# Altium footprint library analog_ic.pcblib: 28 footprints (part 1 of 2)
Each footprint in its own frame and in the unit in brackets; x right, y up, seen from the top. Pads: shape width x height; smd on the part's side, far side on the other; paste and mask are expansions set on the pad; w line width, h text height; cw(c..) or ccw(c..) is an arc to the next point about the centre after c.
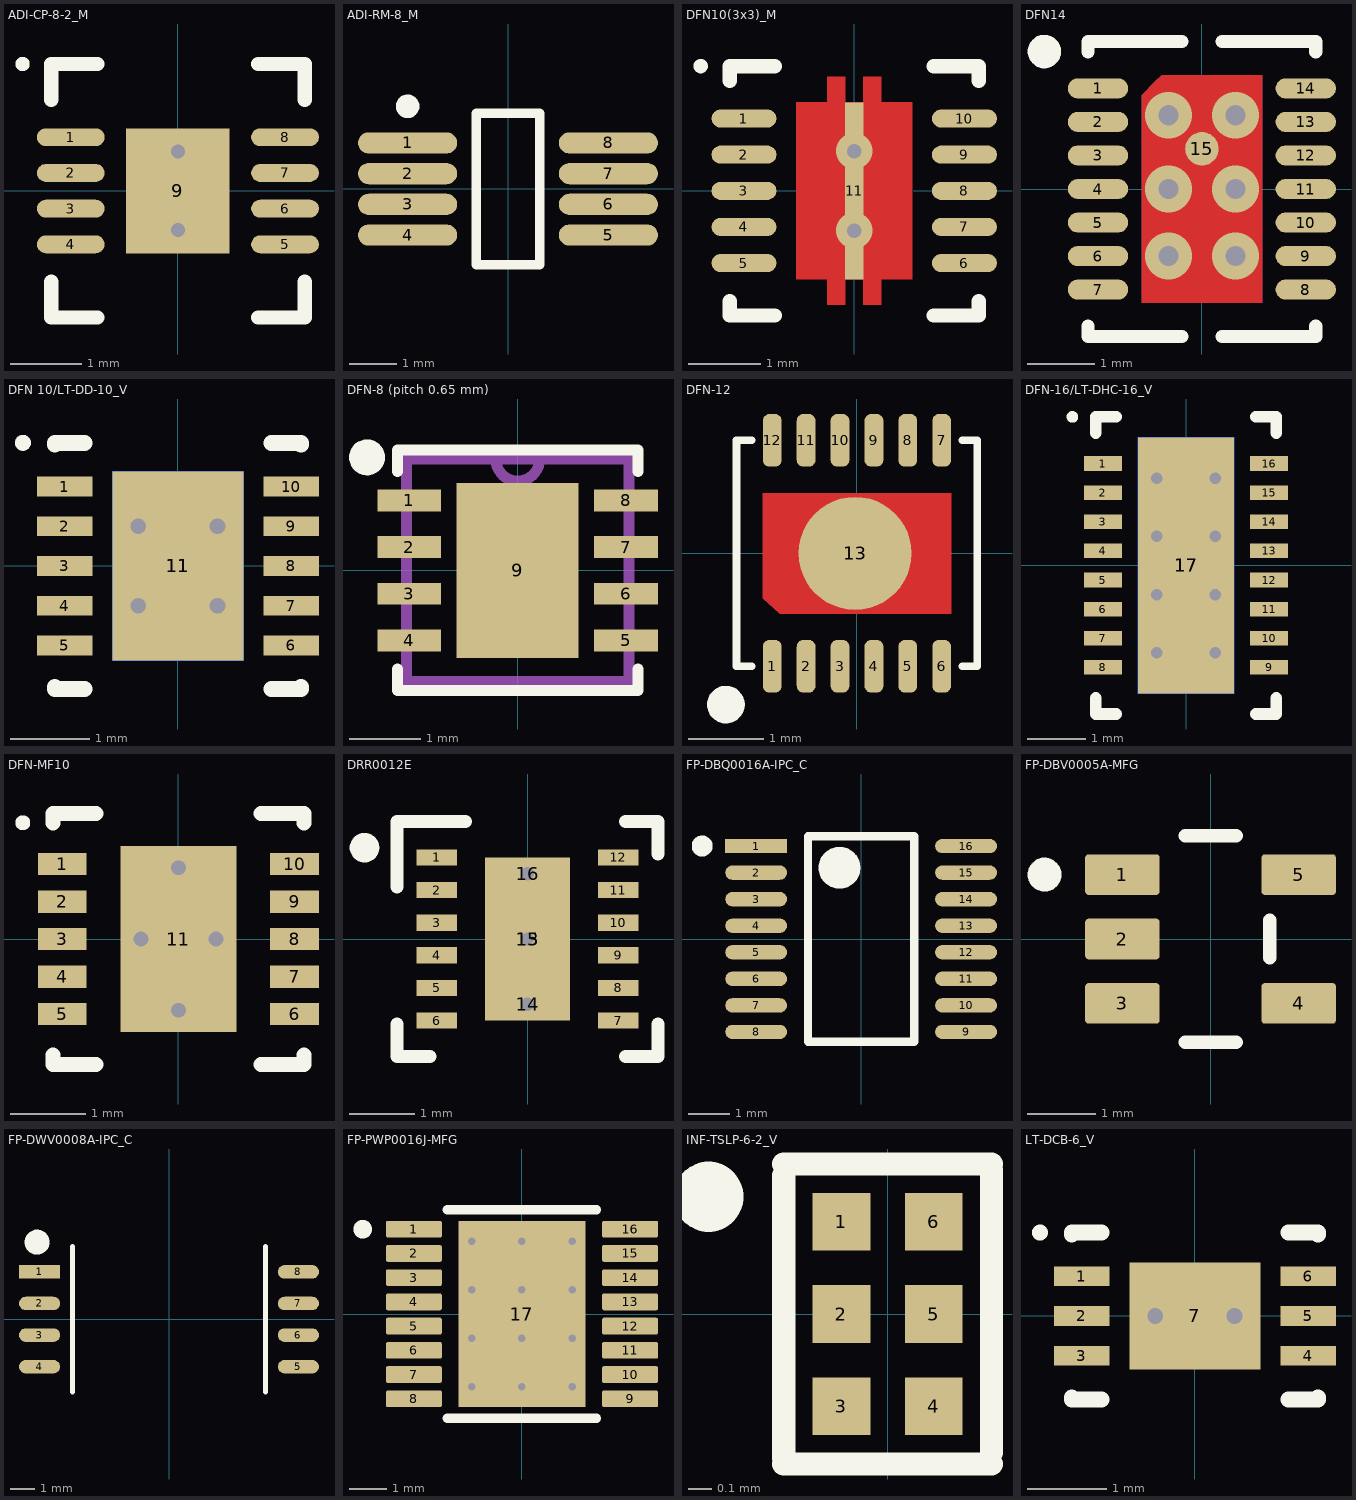
[diagram p0: the footprints below, top view; thin cyan lines are the x and y axes]

## ADI-CP-8-2_M [mm] "SON, 8-Leads, Body 3x3mm, Pitch 0.5mm, Thermal Pad 1.75x1.45mm, IPC Low Density"
height 0.9
pads (9):
  oval 0.95x0.25 smd: 1(-1.5,0.75) 2(-1.5,0.25) 3(-1.5,-0.25) 4(-1.5,-0.75) 5(1.5,-0.75) 6(1.5,-0.25) 7(1.5,0.25) 8(1.5,0.75)
  rect 1.45x1.75 smd: 9(0,0)
via 0,0.55 diameter 0.5 hole 0.2
via 0,-0.55 diameter 0.5 hole 0.2
Top Overlay:
  circle w0.1: c-2.175,1.775 r0.05
  lines w0.2: -1.775,-1.275 -1.775,-1.775 -1.125,-1.775 ; -1.775,1.275 -1.775,1.775 -1.125,1.775 ; 1.125,-1.775 1.775,-1.775 1.775,-1.275 ; 1.125,1.775 1.775,1.775 1.775,1.275
3D body "User Library-LFCSP-8_CP-8-11.step": height 0.8, standoff 0, extent -1.51,-1.5 1.51,1.5

## ADI-RM-8_M [mm] "SOP, 8-Leads, Body 3x3mm, Pitch 0.65mm, IPC Low Density"
height 1.1
pads (8):
  oval 2.1x0.45 smd: 1(-2.125,0.975) 2(-2.125,0.325) 3(-2.125,-0.325) 4(-2.125,-0.975) 5(2.125,-0.975) 6(2.125,-0.325) 7(2.125,0.325) 8(2.125,0.975)
Top Overlay:
  circle w0.25: c-2.125,1.75 r0.125
  lines w0.2: -0.675,-1.6 -0.675,1.6 0.675,1.6 0.675,-1.6 -0.675,-1.6
3D body: height 1.1, standoff 0, extent -1.6,-1.6 1.6,1.6

## DFN10(3x3)_M [mm] "SON, 10-Leads, Body 3x3mm, Pitch 0.5mm, Thermal Pad 2.45x1.6mm, IPC Low Density"
height 1
pads (11):
  oval 0.9x0.25 smd: 1(-1.525,1) 2(-1.525,0.5) 3(-1.525,0) 4(-1.525,-0.5) 5(-1.525,-1) 6(1.525,-1) 7(1.525,-0.5) 8(1.525,0) 9(1.525,0.5) 10(1.525,1)
  rect 0.25x2.45 smd paste+0 mask+0: 11(0,0)
via 0,-0.55 diameter 0.5 hole 0.2
via 0,0.55 diameter 0.5 hole 0.2
Top Layer:
  region: -0.8,-1.225 -0.375,-1.225 -0.375,-1.575 -0.125,-1.575 -0.125,-1.225 0.125,-1.225 0.125,-1.575 0.375,-1.575 0.375,-1.225 0.8,-1.225 0.8,1.225 0.375,1.225 0.375,1.575 0.125,1.575 0.125,1.225 -0.125,1.225 -0.125,1.575 -0.375,1.575 -0.375,1.225 -0.8,1.225
Top Overlay:
  circle w0.1: c-2.125,1.725 r0.05
  lines w0.2: -1.725,-1.525 -1.725,-1.725 -1.1,-1.725 ; -1.725,1.525 -1.725,1.725 -1.1,1.725 ; 1.1,-1.725 1.725,-1.725 1.725,-1.525 ; 1.1,1.725 1.725,1.725 1.725,1.525
3D body "User Library-My-DFN-10-3x3-0_5.STEP": height 0.8, standoff 0, extent -1.57,-1.55 1.55,1.55

## DFN14 [mm]
pads (15):
  oval 0.9x0.3 smd: 1(-1.55,1.5) 2(-1.55,1) 3(-1.55,0.5) 4(-1.55,0) 5(-1.55,-0.5) 6(-1.55,-1) 7(-1.55,-1.5) 8(1.55,-1.5) 9(1.55,-1) 10(1.55,-0.5) 11(1.55,0) 12(1.55,0.5) 13(1.55,1) 14(1.55,1.5)
  round 0.5 smd: 15(0,0.6)
via -0.5,1.1 diameter 0.7 hole 0.3
via 0.5,1.1 diameter 0.7 hole 0.3
via -0.5,0 diameter 0.7 hole 0.3
via 0.5,0 diameter 0.7 hole 0.3
via -0.5,-1 diameter 0.7 hole 0.3
via 0.5,-1 diameter 0.7 hole 0.3
Top Layer:
  region: -0.9,-1.7 -0.9,1.4 -0.7,1.6 -0.6,1.7 0.9,1.7 0.9,-1.7
Bottom Layer:
  region: -0.9,-1.7 -0.9,1.4 -0.7,1.6 -0.6,1.7 0.9,1.7 0.9,-1.7
Top Overlay:
  circle w0.25: c-2.35,2.05 r0.125
  lines w0.2: -1.7,-2.05 -1.7,-2.2 -0.3,-2.2 ; -1.7,2.05 -1.7,2.2 -0.3,2.2 ; 0.3,-2.2 1.7,-2.2 1.7,-2.05 ; 0.3,2.2 1.7,2.2 1.7,2.05
Top Solder:
  region: -0.9,-1.7 -0.9,1.4 -0.7,1.6 -0.6,1.7 0.9,1.7 0.9,-1.7
3D body "User Library-LT3479EDE#PBF-2.step": height 0.75, standoff 0, extent -1.5,-2 1.5,2

## DFN 10/LT-DD-10_V [mm] "SON, 10-Leads, Body 3x3mm, Pitch 0.5mm, Thermal Pad 2.38x1.65mm"
height 0.8
pads (12):
  rect 0.7x0.25 smd mask+0.102: 1(-1.425,1) 2(-1.425,0.5) 3(-1.425,0) 4(-1.425,-0.5) 5(-1.425,-1) 6(1.425,-1) 7(1.425,-0.5) 8(1.425,0) 9(1.425,0.5) 10(1.425,1)
  rect 1.65x2.38 smd mask+0.102: 11(0,0)
  rect 1.65x2.38 smd far side mask+0.102: 11(0,0)
via 0.5,-0.5 diameter 0.5 hole 0.2
via -0.5,-0.5 diameter 0.5 hole 0.2
via 0.5,0.5 diameter 0.5 hole 0.2
via -0.5,0.5 diameter 0.5 hole 0.2
Top Overlay:
  circle w0.1: c-1.95,1.55 r0.05
  lines w0.2: -1.55,-1.525 -1.55,-1.55 -1.175,-1.55 ; -1.55,1.525 -1.55,1.55 -1.175,1.55 ; 1.175,-1.55 1.55,-1.55 1.55,-1.525 ; 1.175,1.55 1.55,1.55 1.55,1.525
3D body "User Library-DFN10-1.STEP": height 0.8, standoff 0, extent -1.51,-1.5 1.51,1.5

## DFN-8 (pitch 0.65 mm) [mil]
pads (9):
  rect 35x12 smd: 1(-59.5,38.39) 2(-59.5,12.8) 3(-59.5,-12.8) 4(-59.5,-38.39) 5(59.5,-38.39) 6(59.5,-12.8) 7(59.5,12.8) 8(59.5,38.39)
  rect 67x96 smd: 9(0,0)
Top Overlay:
  circle w9.84: c-82.68,62.01 r4.92
  lines w6: -66,-54.13 -66,-66 66,-66 66,-54.13 ; -66,54.13 -66,66 66,66 66,54.13
Plata3D:
  lines w6: -12,61 ccw(c0,61) 12,61 ; -12,61 12,61 ; -12,61 -61,61 -61,-61 61,-61 61,61 12,61
3D body "step_temp.STEP": height 31.5, standoff 0, extent -59.06,-59.06 59.06,59.06

## DFN-12 [mm]
pads (13):
  rrect70% 0.25x0.7 smd mask+0.05: 1(-1.125,-1.5) 2(-0.675,-1.5) 3(-0.225,-1.5) 4(0.225,-1.5) 5(0.675,-1.5) 6(1.125,-1.5) 7(1.125,1.5) 8(0.675,1.5) 9(0.225,1.5) 10(-0.225,1.5) 11(-0.675,1.5) 12(-1.125,1.5)
  round 1.5 smd paste+0 mask+0: 13(-0.025,0)
Top Layer:
  region: -1.25,0.8 1.25,0.8 1.25,-0.8 -1.025,-0.8 -1.25,-0.6
Top Overlay:
  circle w0.25: c-1.74,-2.009 r0.125
  lines w0.1: -1.4,-1.5 -1.6,-1.5 -1.6,1.5 -1.4,1.5 ; 1.4,-1.5 1.6,-1.5 1.6,1.5 1.4,1.5
Top Solder:
  region: -1.25,0.8 1.25,0.8 1.25,-0.8 -1.025,-0.8 -1.25,-0.6
3D body "User Library-DFN12(3x3).step": height 0.76, standoff 0, extent -1.5,-1.5 1.5,1.502

## DFN-16/LT-DHC-16_V [mm] "SON, 16-Leads, Body 5x3mm, Pitch 0.5mm, Thermal Pad 4.4X1.65mm"
height 0.8
pads (18):
  rect 0.65x0.25 smd: 1(-1.425,1.75) 2(-1.425,1.25) 3(-1.425,0.75) 4(-1.425,0.25) 5(-1.425,-0.25) 6(-1.425,-0.75) 7(-1.425,-1.25) 8(-1.425,-1.75) 9(1.425,-1.75) 10(1.425,-1.25) 11(1.425,-0.75) 12(1.425,-0.25) 13(1.425,0.25) 14(1.425,0.75) 15(1.425,1.25) 16(1.425,1.75)
  rect 1.65x4.4 smd: 17(0,0)
  rect 1.65x4.4 smd far side: 17(0,0)
via -0.5,1.5 diameter 0.5 hole 0.2
via 0.5,1.5 diameter 0.5 hole 0.2
via -0.5,0.5 diameter 0.5 hole 0.2
via 0.5,0.5 diameter 0.5 hole 0.2
via -0.5,-0.5 diameter 0.5 hole 0.2
via 0.5,-0.5 diameter 0.5 hole 0.2
via -0.5,-1.5 diameter 0.5 hole 0.2
via 0.5,-1.5 diameter 0.5 hole 0.2
Top Overlay:
  circle w0.1: c-1.95,2.55 r0.05
  lines w0.2: -1.55,-2.275 -1.55,-2.55 -1.2,-2.55 ; -1.55,2.275 -1.55,2.55 -1.2,2.55 ; 1.2,-2.55 1.55,-2.55 1.55,-2.275 ; 1.2,2.55 1.55,2.55 1.55,2.275
3D body "User Library-My-DFN-16-5x3-0_5.STEP": height 0.8, standoff 0, extent -1.56,-2.55 1.56,2.55

## DFN-MF10 [mm] "SON, 10-Leads, Body 3x3mm, Pitch 0.5mm, Microchip Recommended"
height 1
pads (11):
  rect 0.65x0.3 smd: 1(-1.55,1) 2(-1.55,0.5) 3(-1.55,0) 4(-1.55,-0.5) 5(-1.55,-1) 6(1.55,-1) 7(1.55,-0.5) 8(1.55,0) 9(1.55,0.5) 10(1.55,1)
  rect 1.55x2.48 smd: 11(0,0)
via 0,-0.95 diameter 0.5 hole 0.2
via 0,0.95 diameter 0.5 hole 0.2
via 0.5,0 diameter 0.5 hole 0.2
via -0.5,0 diameter 0.5 hole 0.2
Top Overlay:
  circle w0.1: c-2.075,1.55 r0.05
  lines w0.2: -1.675,-1.55 -1.675,-1.675 -1.1,-1.675 ; -1.675,1.55 -1.675,1.675 -1.1,1.675 ; 1.1,-1.675 1.675,-1.675 1.675,-1.55 ; 1.1,1.675 1.675,1.675 1.675,1.55
3D body: height 1, standoff 0, extent -1.524,-1.524 1.524,1.524

## DRR0012E [mm]
pads (16):
  rect 0.62x0.25 smd paste+0 mask+0.051: 1(-1.39,1.25) 2(-1.39,0.75) 3(-1.39,0.25) 4(-1.39,-0.25) 5(-1.39,-0.75) 6(-1.39,-1.25) 7(1.39,-1.25) 8(1.39,-0.75) 9(1.39,-0.25) 10(1.39,0.25) 11(1.39,0.75) 12(1.39,1.25)
  rect 1.3x2.5 smd paste-1.237 mask+0.051: 13(0,0)
  round 0.5 hole 0.203 mask+0.051: 14(0,-1) 15(0,0) 16(0,1)
Top Overlay:
  circle w0.254: c-2.5,1.4 r0.1
  lines w0.2: -2,-1.3 -2,-1.8 -1.5,-1.8 ; -2,0.8 -2,1.8 -0.95,1.8 ; 1.5,-1.8 2,-1.8 2,-1.3 ; 1.5,1.8 2,1.8 2,1.3
Top Paste:
  region: 0.555,-0.1 0.605,-0.15 0.605,-1.15 0.555,-1.2 -0.555,-1.2 -0.605,-1.15 -0.605,-0.15 -0.555,-0.1
  region: -0.555,0.1 -0.605,0.15 -0.605,1.15 -0.555,1.2 0.555,1.2 0.605,1.15 0.605,0.15 0.555,0.1
3D body "DRR0012E.stp": height 0.8, standoff 0, extent -1.5,-1.5 1.5,1.5

## FP-DBQ0016A-IPC_C [mil]
pads (16):
  rect 58.26x13.56 smd paste+0 mask+0: 1(-98.75,87.5)
  rrect100% 58.26x13.56 smd paste+0 mask+0: 2(-98.75,62.5) 3(-98.75,37.5) 4(-98.75,12.5) 5(-98.75,-12.5) 6(-98.75,-37.5) 7(-98.75,-62.5) 8(-98.75,-87.5) 9(98.75,-87.5) 10(98.75,-62.5) 11(98.75,-37.5) 12(98.75,-12.5) 13(98.75,12.5) 14(98.75,37.5) 15(98.75,62.5) 16(98.75,87.5)
Top Overlay:
  circle w9.84: c-149.53,87.5 r4.92
  circle w19.68: c-20.41,67.03 r9.84
  lines w7.87: -49.94,-96.56 -49.94,96.56 49.94,96.56 49.94,-96.56 -49.94,-96.56
3D body "IC_Texas_Instruments_ISO1212DBQR_eec.STEP": height 10, standoff 0, extent -131.82,-100.49 131.82,100.49

## FP-DBV0005A-MFG [mm]
pads (5):
  rrect17% 1.1x0.6 smd paste+0 mask+0: 1(-1.3,0.95) 2(-1.3,0) 3(-1.3,-0.95) 4(1.3,-0.95) 5(1.3,0.95)
Top Overlay:
  circle w0.25: c-2.45,0.95 r0.125
  lines w0.2: -0.375,-1.525 0.375,-1.525 ; -0.375,1.525 0.375,1.525 ; 0.875,-0.275 0.875,0.275
3D body "IC_Texas_Instruments_SN65LVDT2DBVT_eec.STEP": height 0.25, standoff 0, extent -1.95,-1.775 1.95,1.775

## FP-DWV0008A-IPC_C [mm]
pads (8):
  rect 1.654x0.542 smd paste+0 mask+0: 1(-5.201,1.905)
  rrect100% 1.654x0.542 smd paste+0 mask+0: 2(-5.201,0.635) 3(-5.201,-0.635) 4(-5.201,-1.905) 5(5.201,-1.905) 6(5.201,-0.635) 7(5.201,0.635) 8(5.201,1.905)
Top Overlay:
  circle w0.5: c-5.3,3.1 r0.25
  lines w0.2: -3.874,-2.925 -3.874,2.925 ; 3.874,-2.925 3.874,2.925
3D body "User Library-SO8_W.step": height 2.7, standoff 0, extent -5.75,-2.95 5.75,2.95

## FP-PWP0016J-MFG [mm]
pads (17):
  rrect22% 1.5x0.45 smd paste+0 mask+0: 1(-2.9,2.275) 2(-2.9,1.625) 3(-2.9,0.975) 4(-2.9,0.325) 5(-2.9,-0.325) 6(-2.9,-0.975) 7(-2.9,-1.625) 8(-2.9,-2.275) 9(2.9,-2.275) 10(2.9,-1.625) 11(2.9,-0.975) 12(2.9,-0.325) 13(2.9,0.325) 14(2.9,0.975) 15(2.9,1.625) 16(2.9,2.275)
  rect 3.4x5 smd paste-1000 mask-1000: 17(0,0)
via 1.35,-1.95 diameter 0.5 hole 0.2
via 0,-1.95 diameter 0.5 hole 0.2
via -1.35,-1.95 diameter 0.5 hole 0.2
via 1.35,-0.65 diameter 0.5 hole 0.2
via 0,-0.65 diameter 0.5 hole 0.2
via -1.35,-0.65 diameter 0.5 hole 0.2
via 1.35,0.65 diameter 0.5 hole 0.2
via 0,0.65 diameter 0.5 hole 0.2
via -1.35,0.65 diameter 0.5 hole 0.2
via 1.35,1.95 diameter 0.5 hole 0.2
via 0,1.95 diameter 0.5 hole 0.2
via -1.35,1.95 diameter 0.5 hole 0.2
Top Overlay:
  circle w0.25: c-4.275,2.275 r0.125
  lines w0.254: -2,-2.8 0,-2.8 2,-2.8 ; -2,2.8 0,2.8 2,2.8
Top Paste:
  rectangle: -1.23,-1.775 1.23,1.775
Top Solder:
  rectangle: -1.23,-1.775 1.23,1.775
3D body "IC_Texas_Instruments_DRV8874PWPR_eec.STEP": height 0.25, standoff 0, extent -3.75,-2.8 3.75,2.8

## INF-TSLP-6-2_V [mm] "TSLP, 6-Leads, Body 0.7x1.1 mm"
height 0.4
pads (6):
  rect 0.25x0.25 smd: 1(-0.2,0.4) 2(-0.2,0) 3(-0.2,-0.4) 4(0.2,-0.4) 5(0.2,0) 6(0.2,0.4)
Top Overlay:
  circle w0.254: c-0.777,0.508 r0.025
  lines w0.1: -0.45,-0.65 0.45,-0.65 ; -0.45,-0.625 -0.45,0.6 ; -0.45,0.65 0.45,0.65 ; 0.45,-0.6 0.45,0.625
3D body: height 0.4, standoff 0, extent -0.35,-0.55 0.35,0.55

## LT-DCB-6_V [mm] "SON, 6-Leads, Body 3x2mm, Pitch 0.5mm, Thermal Pad 1.65x1.35mm"
height 0.8
pads (7):
  rect 0.7x0.25 smd mask+0.102: 1(-1.425,0.5) 2(-1.425,0) 3(-1.425,-0.5) 4(1.425,-0.5) 5(1.425,0) 6(1.425,0.5)
  rect 1.65x1.35 smd mask+0.102: 7(0,0)
via 0.5,0 diameter 0.5 hole 0.2
via -0.5,0 diameter 0.5 hole 0.2
Top Overlay:
  circle w0.1: c-1.95,1.05 r0.05
  lines w0.2: -1.55,-1.025 -1.55,-1.05 -1.175,-1.05 ; -1.55,1.025 -1.55,1.05 -1.175,1.05 ; 1.175,-1.05 1.55,-1.05 1.55,-1.025 ; 1.175,1.05 1.55,1.05 1.55,1.025
3D body "User Library-My-DFN-6-2x3-0_5.STEP": height 0.8, standoff 0, extent -1.57,-1.06 1.55,1.04